# Altium footprint library PCB - LEADLESS - SON - TI SON-6 Q2.PCBLIB: 1 footprints
Each footprint in its own frame and in the unit in brackets; x right, y up, seen from the top. Pads: shape width x height; smd on the part's side, far side on the other; paste and mask are expansions set on the pad; w line width, h text height; cw(c..) or ccw(c..) is an arc to the next point about the centre after c.
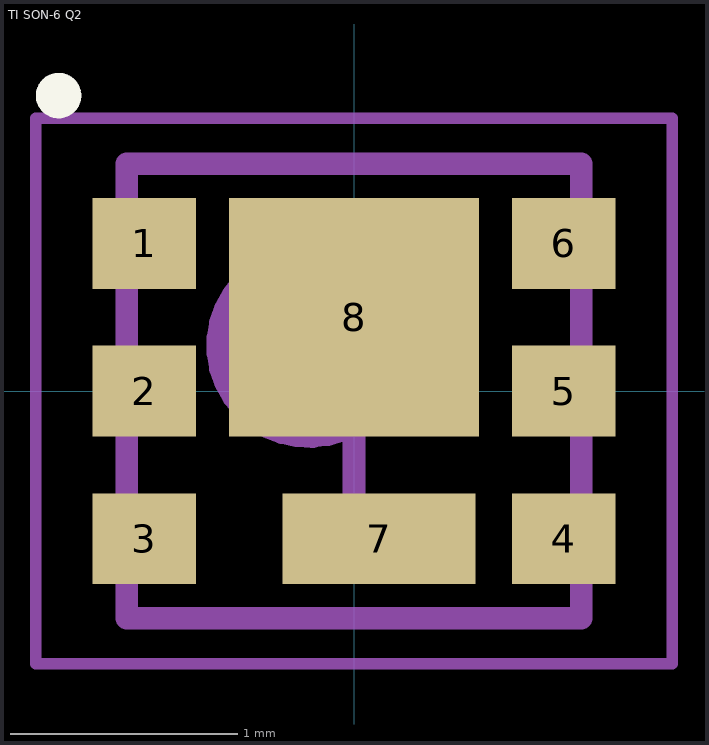
[diagram p0: the footprint, top view; thin cyan lines are the x and y axes]

## TI SON-6 Q2 [mm] "SON, 6-Leads, Body 2.00x2.00mm, Pitch 0.65mm, Thermal Pad 1.10x1.05mm, IPC Medium Density"
height 0.8
pads (8):
  rect 0.455x0.4 smd: 1(-0.923,0.65) 2(-0.923,0) 3(-0.923,-0.65) 4(0.923,-0.65) 5(0.923,0) 6(0.923,0.65)
  rect 0.85x0.4 smd: 7(0.111,-0.65)
  rect 1.1x1.05 smd: 8(0,0.325)
Top Overlay:
  circle w0.1: c-1.3,1.3 r0.05
Mechanical 13:
  circle w0.1: c-0.2,0.2 r0.4
  lines w0.1: -1,-1 -1,1 1,1 1,-1 -1,-1
Mechanical 15:
  lines w0.05: -1.4,-1.2 -1.4,1.2 1.4,1.2 1.4,-1.2 -1.4,-1.2
  lines w0.1: -0.5,0 0.5,0 ; 0,-0.5 0,0.5
3D body: height 0.8, standoff 0.01, extent -1,-1 1,1